# Altium schematic symbol library изоляторы.SchLib: 39 symbols
Pins are listed as number, name and electrical type; pins without a type are passive.

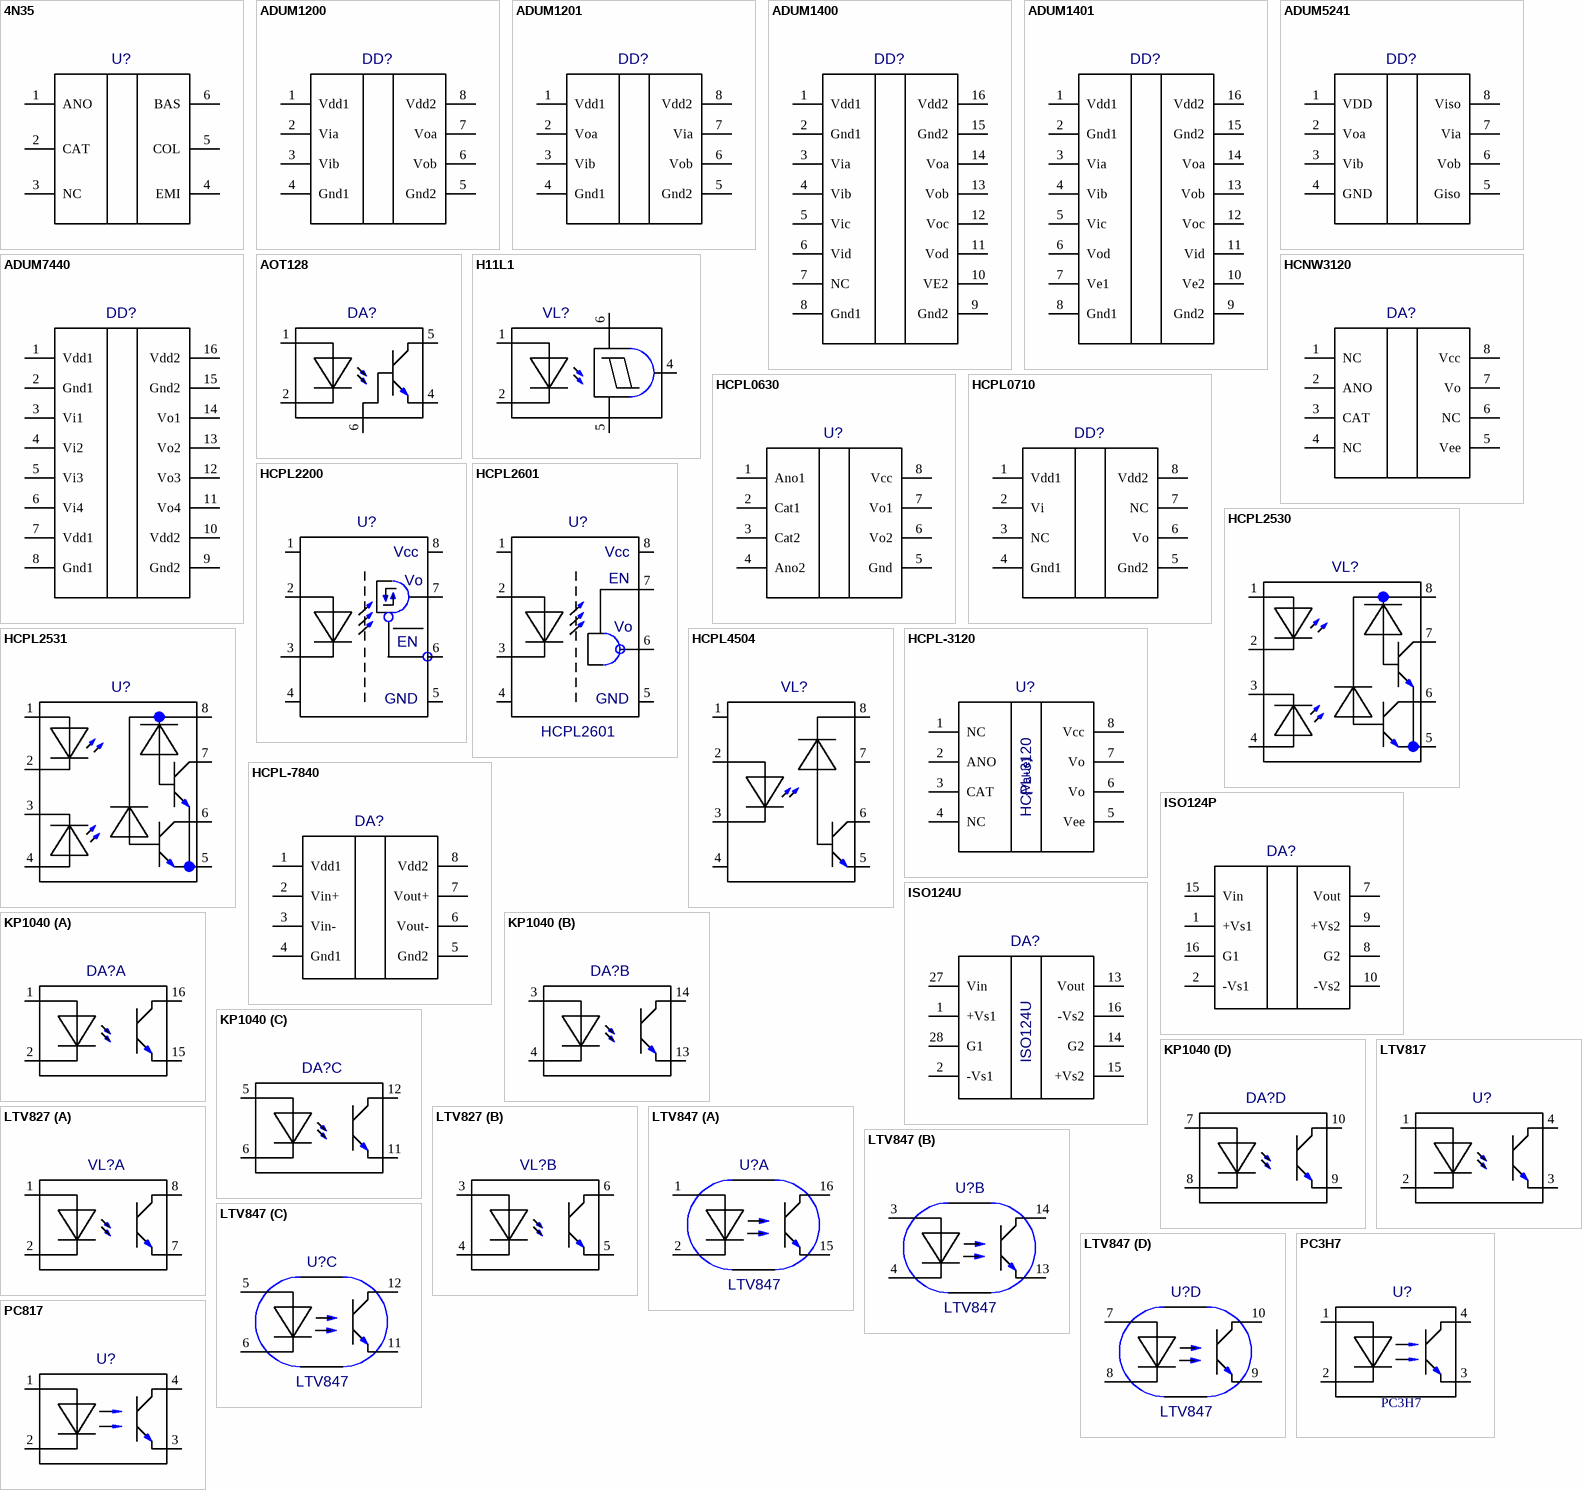
[diagram p0: symbols 4N35 to PC817]

## 4N35
designator U?  (value not drawn)
Value: *
footprint DIP6
pins: 1 ANO, 2 CAT, 3 NC, 4 EMI, 5 COL, 6 BAS

## ADUM1200
designator DD?  (value not drawn)
Value: *
footprint SO8
pins: 1 Vdd1, 2 Via, 3 Vib, 4 Gnd1, 5 Gnd2, 6 Vob, 7 Voa, 8 Vdd2

## ADUM1201
designator DD?  (value not drawn)
Value: *
footprint SO8
pins: 1 Vdd1, 2 Voa, 3 Vib, 4 Gnd1, 5 Gnd2, 6 Vob, 7 Via, 8 Vdd2

## ADUM1400
designator DD?  (value not drawn)
Value: *
footprint SOL16
pins: 1 Vdd1, 2 Gnd1, 3 Via, 4 Vib, 5 Vic, 6 Vid, 7 NC, 8 Gnd1, 9 Gnd2, 10 VE2, 11 Vod, 12 Voc, 13 Vob, 14 Voa, 15 Gnd2, 16 Vdd2

## ADUM1401
designator DD?  (value not drawn)
Value: *
footprint SOL16
pins: 1 Vdd1, 2 Gnd1, 3 Via, 4 Vib, 5 Vic, 6 Vod, 7 Ve1, 8 Gnd1, 9 Gnd2, 10 Ve2, 11 Vid, 12 Voc, 13 Vob, 14 Voa, 15 Gnd2, 16 Vdd2

## ADUM5241
designator DD?  (value not drawn)
Value: *
footprint SO8
pins: 1 VDD, 2 Voa, 3 Vib, 4 GND, 5 Giso, 6 Vob, 7 Via, 8 Viso

## ADUM7440
designator DD?  (value not drawn)
Value: *
footprint QSOP16
pins: 1 Vdd1, 2 Gnd1, 3 Vi1, 4 Vi2, 5 Vi3, 6 Vi4, 7 Vdd1, 8 Gnd1, 9 Gnd2, 10 Vdd2, 11 Vo4, 12 Vo3, 13 Vo2, 14 Vo1, 15 Gnd2, 16 Vdd2

## AOT128
designator DA?  (value not drawn)
Value: *
footprint DIP6
pins: 1 A, 2 K, 3 hidden, 4 E, 5 C, 6 B

## H11L1
designator VL?  (value not drawn)
Value: *
footprint SMT6
pins: 1, 2, 3 hidden, 4, 5, 6, 7 hidden, 8 hidden, 9 hidden, 10 hidden, 11 hidden, 12 hidden

## HCNW3120
designator DA?  (value not drawn)
Value: *
footprint HCNW3120
pins: 1 NC, 2 ANO, 3 CAT, 4 NC, 5 Vee, 6 NC, 7 Vo, 8 Vcc

## HCPL0630
designator U?  (value not drawn)
Value: *
footprint SO8
pins: 1 Ano1, 2 Cat1, 3 Cat2, 4 Ano2, 5 Gnd, 6 Vo2, 7 Vo1, 8 Vcc

## HCPL0710
designator DD?  (value not drawn)
Value: *
footprint SO8
pins: 1 Vdd1, 2 Vi, 3 NC, 4 Gnd1, 5 Gnd2, 6 Vo, 7 NC, 8 Vdd2

## HCPL2200
designator U?  (value not drawn)
Value: *
footprint DIP8
pins: 1 NC, 2 A, 3 K, 4 NC, 5 GND, 6 Ve, 7 Vo, 8 Vcc
text: EN

## HCPL2530
designator VL?  (value not drawn)
Value: *
footprint DIP8
pins: 1 NC, 2 A, 3 K, 4 NC, 5 E, 6 K, 7 NC, 8 OUT

## HCPL2531
designator U?  (value not drawn)
Value: *
footprint DIP8
pins: 1 a1, 2 c1, 3 c2, 4 a2, 5 gnd, 6 v02, 7 v01, 8 vcc

## HCPL2601
designator U?
Value: *
footprint DIP8
pins: 1 NC, 2 A, 3 K, 4 NC, 5 GND, 6 Vo, 7 Ve, 8 Vcc
text: EN

## HCPL4504
designator VL?  (value not drawn)
Value: *
footprint DIP8
pins: 1 NC, 2 A, 3 K, 4 NC, 5 E, 6 K, 7 NC, 8 OUT

## HCPL-3120
designator U?  value {Value}
footprint DIP8
pins: 1 NC, 2 ANO, 3 CAT, 4 NC, 5 Vee, 6 Vo, 7 Vo, 8 Vcc

## HCPL-7840
designator DA?  (value not drawn)
Value: HCPL-7840
footprint DIP8
pins: 1 Vdd1, 2 Vin+, 3 Vin-, 4 Gnd1, 5 Gnd2, 6 Vout-, 7 Vout+, 8 Vdd2

## ISO124P
designator DA?  (value not drawn)
Value: *
footprint ISO124
pins: 1 +Vs1, 2 -Vs1, 7 Vout, 8 G2, 9 +Vs2, 10 -Vs2, 15 Vin, 16 G1

## ISO124U
designator DA?
Value: *
footprint ISO124U
pins: 1 +Vs1, 2 -Vs1, 13 Vout, 14 G2, 15 +Vs2, 16 -Vs2, 27 Vin, 28 G1

## KP1040
designator DA?  (value not drawn)
Value: *
footprint DIP16
part A pins: 1 A, 2 K, 15 E, 16 K
part B pins: 3 A, 4 K, 13 E, 14 K
part C pins: 5 A, 6 K, 11 E, 12 K
part D pins: 7 A, 8 K, 9 E, 10 K

## LTV817
designator U?  (value not drawn)
Value: *
footprint DIP4
pins: 1 A, 2 B, 3 C, 4 D

## LTV827
designator VL?  (value not drawn)
Value: *
footprint DIP8
part A pins: 1 A, 2 B, 7 C, 8 D
part B pins: 3 A, 4 B, 5 C, 6 D

## LTV847
designator U?
Value: *
footprint DIP16
part A pins: 1 A, 2 B, 15 C, 16 D
part B pins: 3 A, 4 B, 13 C, 14 D
part C pins: 5 A, 6 B, 11 C, 12 D
part D pins: 7 A, 8 B, 9 C, 10 D

## PC3H7
designator U?
PC3H7 (SO-4); Value: PC3H7
footprint SO-4 (SOIC, 4-Leads, Body 2,60x4,40mm, Pitch 1,27mm)
pins: 1 A, 2 K, 3 E, 4 K

## PC817
designator U?  (value not drawn)
Value: *
footprint DIP4
pins: 1 A, 2 K, 3 E, 4 K

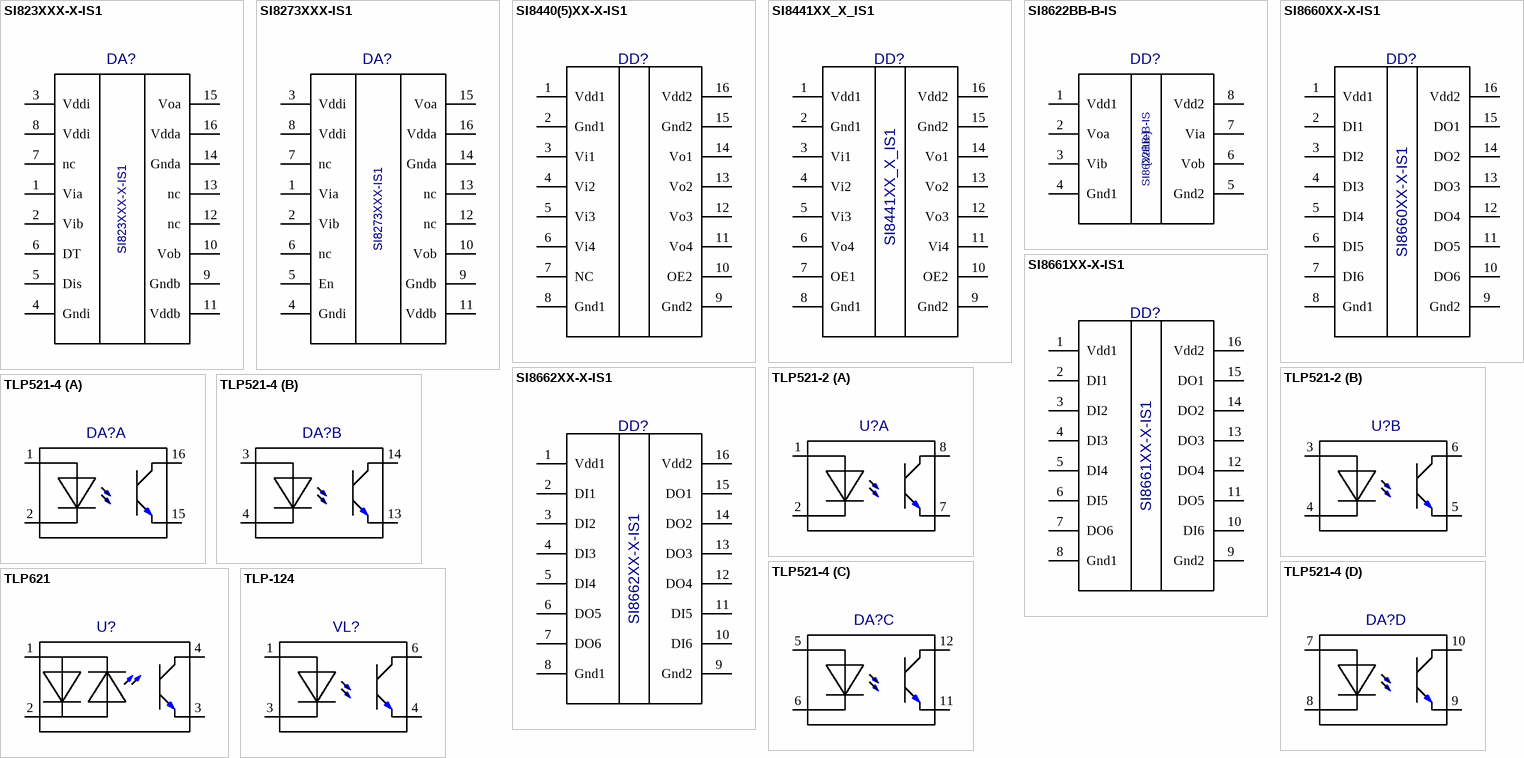
[diagram p1: symbols SI823XXX-X-IS1 to TLP-124]

## SI823XXX-X-IS1
designator DA?
Value: {Value}
footprint SO16
pins: 1 Via, 2 Vib, 3 Vddi, 4 Gndi, 5 Dis, 6 DT, 7 nc, 8 Vddi, 9 Gndb, 10 Vob, 11 Vddb, 12 nc, 13 nc, 14 Gnda, 15 Voa, 16 Vdda

## SI8273XXX-IS1
designator DA?
Value: *
footprint SO16
pins: 1 Via, 2 Vib, 3 Vddi, 4 Gndi, 5 En, 6 nc, 7 nc, 8 Vddi, 9 Gndb, 10 Vob, 11 Vddb, 12 nc, 13 nc, 14 Gnda, 15 Voa, 16 Vdda

## SI8440(5)XX-X-IS1
designator DD?  (value not drawn)
Value: *
footprint SO16
pins: 1 Vdd1, 2 Gnd1, 3 Vi1, 4 Vi2, 5 Vi3, 6 Vi4, 7 NC, 8 Gnd1, 9 Gnd2, 10 OE2, 11 Vo4, 12 Vo3, 13 Vo2, 14 Vo1, 15 Gnd2, 16 Vdd2

## SI8441XX_X_IS1
designator DD?
Value: {Value}
footprint SO16
pins: 1 Vdd1, 2 Gnd1, 3 Vi1, 4 Vi2, 5 Vi3, 6 Vo4, 7 OE1, 8 Gnd1, 9 Gnd2, 10 OE2, 11 Vi4, 12 Vo3, 13 Vo2, 14 Vo1, 15 Gnd2, 16 Vdd2

## SI8622BB-B-IS
designator DD?  value {Value}
footprint SO8
pins: 1 Vdd1, 2 Voa, 3 Vib, 4 Gnd1, 5 Gnd2, 6 Vob, 7 Via, 8 Vdd2

## SI8660XX-X-IS1
designator DD?
Value: {Value}
footprint SO16
pins: 1 Vdd1, 2 DI1, 3 DI2, 4 DI3, 5 DI4, 6 DI5, 7 DI6, 8 Gnd1, 9 Gnd2, 10 DO6, 11 DO5, 12 DO4, 13 DO3, 14 DO2, 15 DO1, 16 Vdd2

## SI8661XX-X-IS1
designator DD?
Value: {Value}
footprint SO16
pins: 1 Vdd1, 2 DI1, 3 DI2, 4 DI3, 5 DI4, 6 DI5, 7 DO6, 8 Gnd1, 9 Gnd2, 10 DI6, 11 DO5, 12 DO4, 13 DO3, 14 DO2, 15 DO1, 16 Vdd2

## SI8662XX-X-IS1
designator DD?
Value: *
footprint SO16
pins: 1 Vdd1, 2 DI1, 3 DI2, 4 DI3, 5 DI4, 6 DO5, 7 DO6, 8 Gnd1, 9 Gnd2, 10 DI6, 11 DI5, 12 DO4, 13 DO3, 14 DO2, 15 DO1, 16 Vdd2

## TLP521-2
designator U?  (value not drawn)
Value: *
footprint DIP8
part A pins: 1 A, 2 K, 7 E, 8 K
part B pins: 3 A, 4 K, 5 E, 6 K

## TLP521-4
designator DA?  (value not drawn)
Value: *
footprint DIP16
part A pins: 1 A, 2 K, 15 E, 16 K
part B pins: 3 A, 4 K, 13 E, 14 K
part C pins: 5 A, 6 K, 11 E, 12 K
part D pins: 7 A, 8 K, 9 E, 10 K

## TLP621
designator U?  (value not drawn)
Value: *
footprint DIP4
pins: 1, 2, 3, 4

## TLP-124
designator VL?  (value not drawn)
Value: *
footprint TLP124
pins: 1, 3, 4, 6